# Altium schematic symbol library R_0603.SchLib: 1 symbol
Pins are listed as number, name and electrical type; pins without a type are passive.

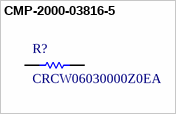
[diagram p0: symbol CMP-2000-03816-5]

## CMP-2000-03816-5
designator R?, comment CRCW06030000Z0EA
Chip Resistor, 0 Ohm, Jumper, 100 mW, -55 to 155 degC, 0603 (1608 Metric), RoHS, Tape and Reel; Manufacturer: Vishay Semiconductor; Voltage Rating: 75 V; Package Quantity: 5000; DatasheetVersion: 06/2012; Min Operating Temperature: -55 degC; ComponentLink1URL: http://www.vishay.com/; Mounting Technology: Surface Mount; Height: 0.45 mm; ComponentLink1Description: Manufacturer URL; REACH SVHC: Unknown; PackageReference: 0603; Packaging: Tape and Reel; Max Operating Temperature: 155 degC; Mount: Surface Mount; ComponentLink2Description: Datasheet; PackageDescription: 2-Pin Surface Mount Device, Body 1.575 x 0.85 mm; Length: 1.55 mm; ComponentLink2URL: http://www.vishay.com/docs/20035/dcrcwe3.pdf; Pins: 2; RoHSCompliant: true
footprint RESC1609X50X30LL8T20 (Chip Resistor, 2-Leads, Body 1.65x0.95mm, IPC High Density)
footprint RESC1609X50X30NL8T20 (Chip Resistor, 2-Leads, Body 1.65x0.95mm, IPC Medium Density)
footprint RESC1609X50X30ML8T20 (Chip Resistor, 2-Leads, Body 1.65x0.95mm, IPC Low Density)
pins: 1, 2